# Altium schematic symbol library LSM9DS0.SchLib: 1 symbol
Pins are listed as number, name and electrical type; pins without a type are passive.

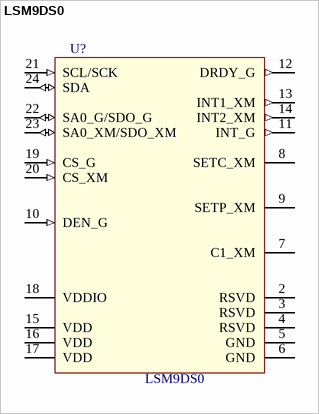
[diagram p0: symbol LSM9DS0]

## LSM9DS0
designator U?
3D accelerometer, 3D gyroscope, 3D magnetometer; value: LSM9DS0
pins: 2 RSVD, 3 RSVD, 4 RSVD, 5 GND (power), 6 GND (power), 7 C1_XM, 8 SETC_XM, 9 SETP_XM, 10 DEN_G (in), 11 INT_G (out), 12 DRDY_G (out), 13 INT1_XM (out), 14 INT2_XM (out), 15 VDD (power), 16 VDD (power), 17 VDD (power), 18 VDDIO, 19 CS_G (in), 20 CS_XM (in), 21 SCL/SCK (in), 22 SA0_G/SDO_G (io), 23 SA0_XM/SDO_XM (io), 24 SDA (io)